# Altium schematic symbol library DZ.Schlib: 1 symbol
Pins are listed as number, name and electrical type; pins without a type are passive.

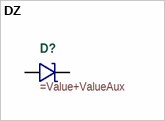
[diagram p0: symbol DZ]

## DZ
designator D?
=Description
pins: A, K